# Altium footprint library ADMP441.PcbLib: 1 footprints
Each footprint in its own frame and in the unit in brackets; x right, y up, seen from the top. Pads: shape width x height; smd on the part's side, far side on the other; paste and mask are expansions set on the pad; w line width, h text height; cw(c..) or ccw(c..) is an arc to the next point about the centre after c.
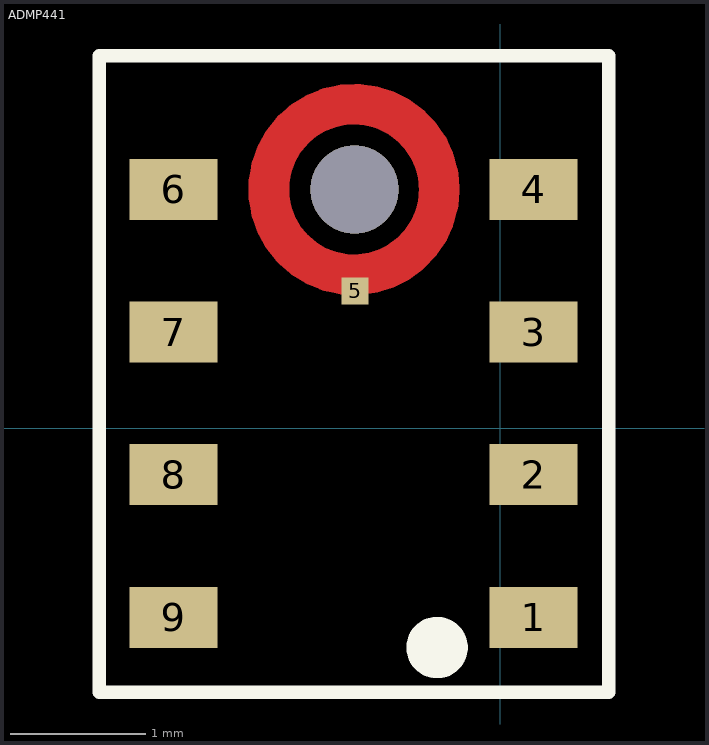
[diagram p0: the footprint, top view; thin cyan lines are the x and y axes]

## ADMP441 [mm]
pads (9):
  rect 0.65x0.45 smd mask+0.102: 1(0.247,-1.397)
  rect 0.65x0.45 smd: 2(0.247,-0.344) 3(0.247,0.71) 4(0.247,1.763) 6(-2.413,1.763) 7(-2.413,0.71) 8(-2.413,-0.344) 9(-2.413,-1.397)
  rect 0.2x0.2 smd mask+0: 5(-1.072,1.014)
via -1.076,1.762 diameter 0.65 hole 0.65
Top Layer:
  circle w0.3: c-1.08,1.763 r0.63
Top Overlay:
  circle w0.254: c-0.466,-1.62 r0.1
  lines w0.1: -2.96,-1.95 0.8,-1.95 0.8,2.75 -2.96,2.75 -2.96,-1.95